# EAGLE library part DIGITALOUTPUTS (library ControlBoard)
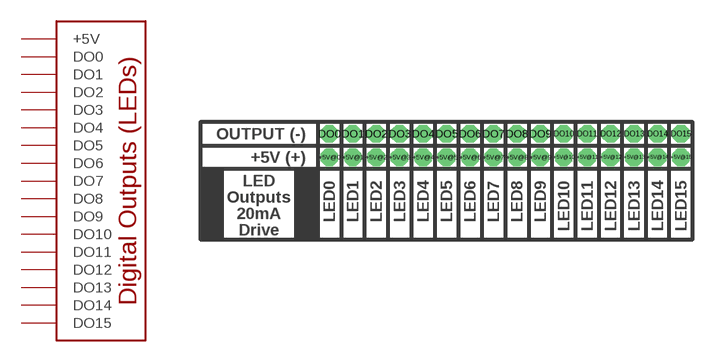
[diagram p4: symbol with the pads of DIGITALOUT; footprint DIGITALOUT]

Designator prefix -

## DIGITALOUTPUTS  [DIGITALOUT]
+5V@0  +5V  pwr
+5V@1  +5V  pwr
+5V@2  +5V  pwr
+5V@3  +5V  pwr
+5V@4  +5V  pwr
+5V@5  +5V  pwr
+5V@6  +5V  pwr
+5V@7  +5V  pwr
+5V@8  +5V  pwr
+5V@9  +5V  pwr
+5V@10  +5V  pwr
+5V@11  +5V  pwr
+5V@12  +5V  pwr
+5V@13  +5V  pwr
+5V@14  +5V  pwr
+5V@15  +5V  pwr
DO0  DO0
DO1  DO1
DO2  DO2
DO3  DO3
DO4  DO4
DO5  DO5
DO6  DO6
DO7  DO7
DO8  DO8
DO9  DO9
DO10  DO10
DO11  DO11
DO12  DO12
DO13  DO13
DO14  DO14
DO15  DO15

## Footprint DIGITALOUT (pad centres in mm)
drill 1.016 pad 1.88 octagon: +5V@0 -15.24,-1.27; +5V@1 -12.7,-1.27; +5V@2 -10.16,-1.27; +5V@3 -7.62,-1.27; +5V@4 -5.08,-1.27; +5V@5 -2.54,-1.27; +5V@6 0,-1.27; +5V@7 2.54,-1.27; +5V@8 5.08,-1.27; +5V@9 7.62,-1.27; +5V@10 10.16,-1.27; +5V@11 12.7,-1.27; +5V@12 15.24,-1.27; +5V@13 17.78,-1.27; +5V@14 20.32,-1.27; +5V@15 22.86,-1.27; DO0 -15.24,1.27; DO1 -12.7,1.27; DO2 -10.16,1.27; DO3 -7.62,1.27; DO4 -5.08,1.27; DO5 -2.54,1.27; DO6 0,1.27; DO7 2.54,1.27; DO8 5.08,1.27; DO9 7.62,1.27; DO10 10.16,1.27; DO11 12.7,1.27; DO12 15.24,1.27; DO13 17.78,1.27; DO14 20.32,1.27; DO15 22.86,1.27